# Altium footprint library PCB.PcbLib: 8 footprints
Each footprint in its own frame and in the unit in brackets; x right, y up, seen from the top. Pads: shape width x height; smd on the part's side, far side on the other; paste and mask are expansions set on the pad; w line width, h text height; cw(c..) or ccw(c..) is an arc to the next point about the centre after c.
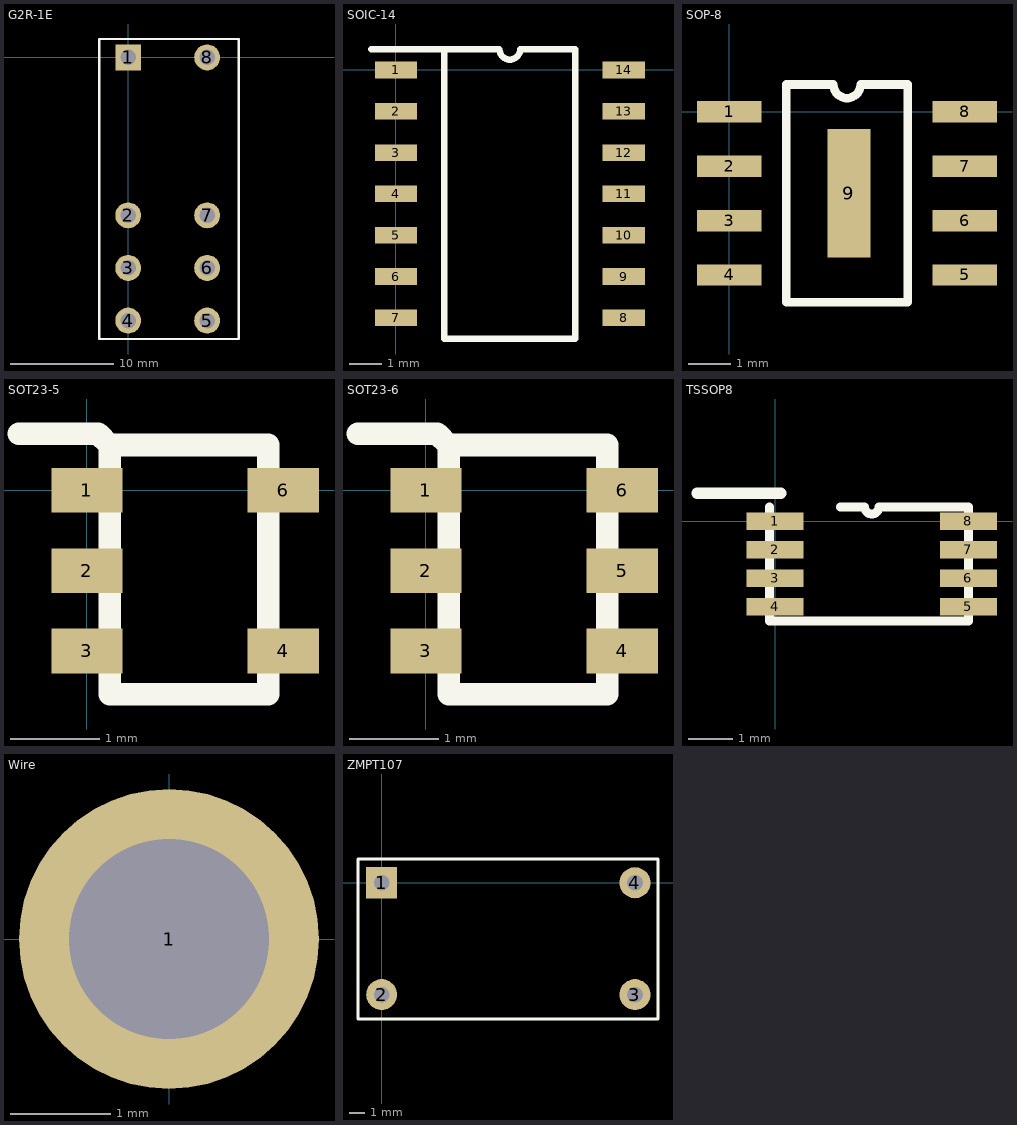
[diagram p0: the footprints below, top view; thin cyan lines are the x and y axes]

## G2R-1E [mm]
pads (8):
  rect 2.5x2.5 hole 1.5: 1(0,0)
  round 2.5 hole 1.5: 2(0,-15.24) 3(0,-20.32) 4(0,-25.4) 5(7.62,-25.4) 6(7.62,-20.32) 7(7.62,-15.24) 8(7.62,0)
Top Overlay:
  lines w0.2: -2.794,-27.178 -2.794,1.778 10.668,1.778 10.668,-27.178 -2.794,-27.178
3D body "g2r-1a-e_24dc.stp": height 25.5, standoff -4, extent -2.813,-27.2 10.687,1.8

## SOIC-14 [mm]
pads (14):
  rect 1.3x0.51 smd: 1(0,0) 2(0,-1.27) 3(0,-2.54) 4(0,-3.81) 5(0,-5.08) 6(0,-6.35) 7(0,-7.62) 8(7,-7.62) 9(7,-6.35) 10(7,-5.08) 11(7,-3.81) 12(7,-2.54) 13(7,-1.27) 14(7,0)
Top Overlay:
  lines w0.2: -0.762,0.635 1.485,0.635 ; 1.485,0.635 3.183,0.635 ccw(c3.5,0.635) 3.818,0.635 5.515,0.635 5.515,-8.255 1.485,-8.255 1.485,0.635
3D body "User Library-so14-1.step": height 1.7, standoff 0, extent 0.429,-8.21 6.429,0.59

## SOP-8 [mm]
pads (9):
  rect 1.5x0.5 smd: 1(0,0) 2(0,-1.27) 3(0,-2.54) 4(0,-3.81) 5(5.5,-3.81) 6(5.5,-2.54) 7(5.5,-1.27) 8(5.5,0)
  rect 1x3 smd: 9(2.794,-1.905)
Top Overlay:
  lines w0.2: 1.335,-4.445 1.335,0.635 2.432,0.635 ccw(c2.75,0.635) 3.067,0.635 4.165,0.635 4.165,-4.445 1.335,-4.445
3D body "User Library-sop8_model.STEP": height 1.55, standoff -0.01, extent -0.249,-4.316 5.731,0.584

## SOT23-5 [mm]
pads (5):
  rect 0.8x0.5 smd: 1(0,0) 2(0,-0.9) 3(0,-1.8) 4(2.2,-1.8) 6(2.2,0)
Top Overlay:
  lines w0.254: 0.127,0.635 -0.762,0.635 0.127,0.635 ; 0.127,0.635 0.254,0.508 ; 0.254,0.508 0.254,-2.286 2.032,-2.286 2.032,0.508 0.254,0.508
3D body "User Library-SOT-23-6.step": height 1.09, standoff 0, extent -0.127,-2.297 2.299,0.497

## SOT23-6 [mm]
pads (6):
  rect 0.8x0.5 smd: 1(0,0) 2(0,-0.9) 3(0,-1.8) 4(2.2,-1.8) 5(2.2,-0.9) 6(2.2,0)
Top Overlay:
  lines w0.254: 0.127,0.635 -0.762,0.635 0.127,0.635 ; 0.127,0.635 0.254,0.508 ; 0.254,0.508 0.254,-2.286 2.032,-2.286 2.032,0.508 0.254,0.508
3D body "User Library-SOT-23-6.step": height 1.09, standoff 0, extent -0.127,-2.297 2.299,0.497

## TSSOP8 [mm]
pads (8):
  rect 1.3x0.4 smd: 1(0,0) 2(0,-0.65) 3(0,-1.3) 4(0,-1.95) 5(4.4,-1.95) 6(4.4,-1.3) 7(4.4,-0.65) 8(4.4,0)
Top Overlay:
  lines w0.2: -0.127,0.325 -0.127,-2.275 4.4,-2.275 4.4,0.325 2.362,0.325 cw(c2.2,0.325) 2.037,0.325 1.485,0.325
  lines w0.254: -1.778,0.635 0.127,0.635
3D body "User Library-TSS0P8.step": height 1.09, standoff 0, extent -0.854,-2.54 5.426,0.46

## Wire [mm]
pads (1):
  round 3 hole 2: 1(0,0)

## ZMPT107 [mm]
pads (4):
  rect 2x2 hole 1: 1(0,0)
  round 2 hole 1: 2(0,-7.2) 3(16.3,-7.2) 4(16.3,0)
Top Overlay:
  lines w0.2: -1.524,-8.763 17.78,-8.763 17.78,1.524 -1.524,1.524 -1.524,-8.763
3D body "User Library-ZMPT107.step": height 18.2, standoff -5.25, extent -1.522,-8.763 17.778,1.437